# Altium integrated library TI Audio CODEC.IntLib: 199 symbols (part 14 of 17)
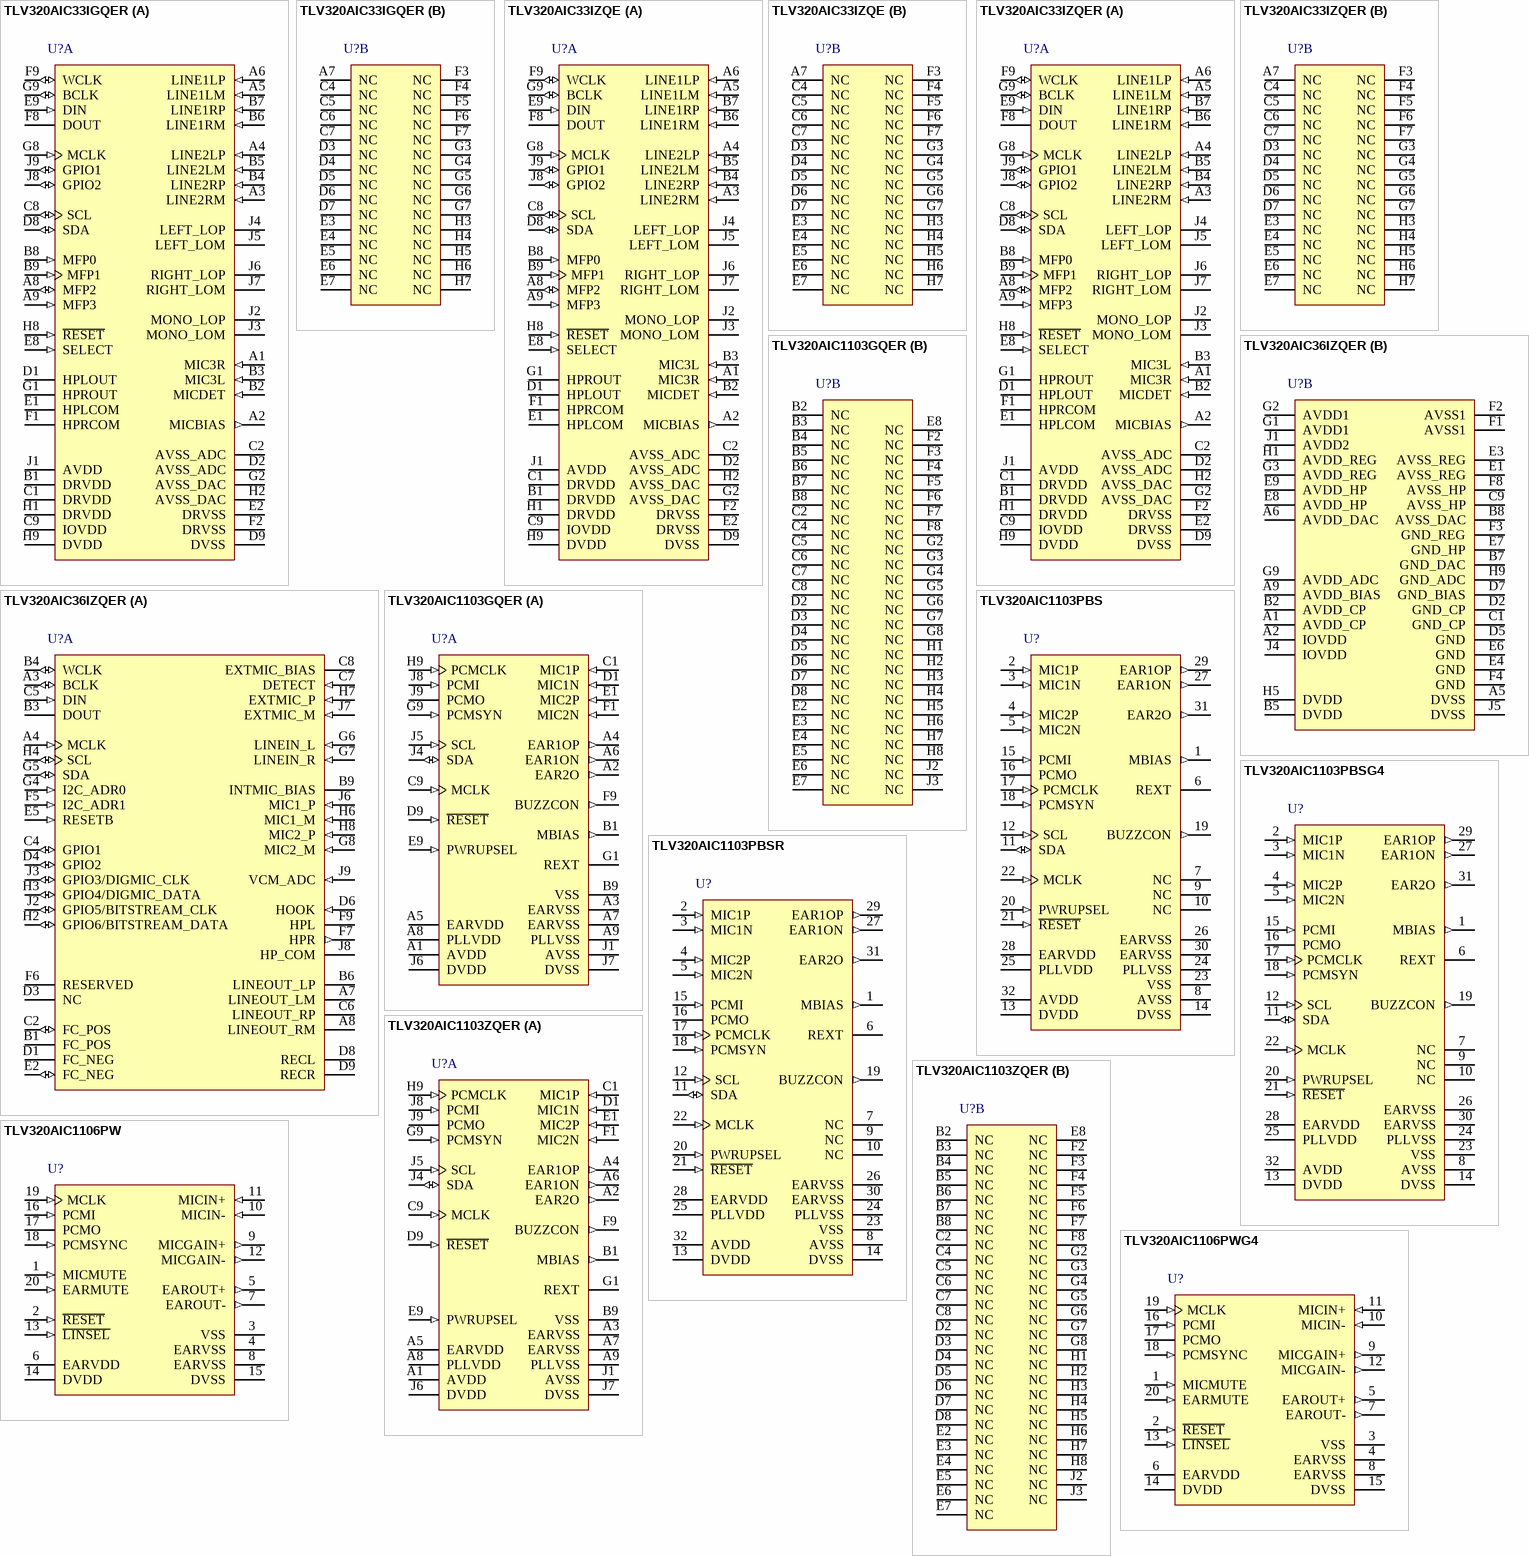
[diagram p26: symbols TLV320AIC33IGQER to TLV320AIC1106PWG4]

## TLV320AIC33IGQER
designator U?
Low-Power Stereo CODEC with 10 Inputs, 7 Outputs, HP / Speaker Amplifier and Enhanced Digital Effects, 2 ADCs and 2 DACs, 100 dB DAC SNR, -40 to 85 degC, 80-pin BGA MICROSTAR JUNIOR (GQE); Manufacturer: Texas Instruments; PartNumber: TLV320AIC33IGQER; # ADCs (typ): 2; Additional Features: 3D, EQ, Matrix Mixing, PLL, Alt Audio Int., HS detect; Battery Powered: TRUE; Control Interface: SPI, I2C; DAC SNR: 100; Digital Audio Interfaces: L, R, I2S, DSP, TDM; Sampling Rate (Max) (kHz): 96; Speaker Amp Output Power(Max)(W): 0.5; Speaker Amp Type: Class-AB; DatasheetVersion: SLAS480B; PackageVersion: Oct-2005; PackageReference: GQE80; PackageDescription: 80-Ball Plastic Ball Grid Array, 5 x 5 mm Body, 0.5 mm Pitch; Supplier 1: Digi-Key; Supplier Part Number 1: TLV320AIC33IGQER-ND; Supplier 2: Newark; Supplier Part Number 2: 75K1593; Supplier 3: Mouser; Supplier Part Number 3: 595-TLV320AIC33IGQER; # DACs: 2; Speaker Amp Ouputs: 2; Mounting Technology: Surface Mount; Code_JEDEC: MO-225; ComponentLink1Description: Datasheet; ComponentLink1URL: http://www.ti.com/general/docs/lit/getliterature.tsp?genericPartNumber=TLV320AIC33&fileType=pdf
footprint GQE80 (BGA, 80-Leads, Body 5x5mm, Pitch 0.5mm)
part A pins: A1 MIC3R (in) "MIC3 Input (Right or Multifunction)", A2 MICBIAS (out) "Microphone Bias Voltage Output", A3 LINE2RM (in) "MIC2 or Line2 Analog Input (Right Minus or Multifunction)", A4 LINE2LP (in) "MIC2 or Line2 Analog Input (Left Plus or Multifunction)", A5 LINE1LM (in) "MIC1 or Line1 Analog Input (Left Minus or Multifunction)", A6 LINE1LP (in) "MIC1 or Line1 Analog Input (Left Plus or Multifunction)", A8 MFP2 (io) "Multifunction pin #2 - SPI MISO Slave Serial Data Output / GPOI", A9 MFP3 (in) "Multifunction pin #3 - SPI MOSI Slave Serial Data Input / GPI / Audio Serial Data Bus Data Input", B1 DRVDD (power) "ADC Analog and Output Driver Voltage Supply, 2.7 V-3.6 V", B2 MICDET (in) "Microphone Detect", B3 MIC3L (in) "MIC3 Input (Left or Multifunction)", B4 LINE2RP (in) "MIC2 or Line2 Analog Input (Right Plus or Multifunction)", B5 LINE2LM (in) "MIC2 or Line2 Analog Input (Left Minus or Multifunction)", B6 LINE1RM (in) "MIC1 or Line1 Analog Input (Right Minus or Multifunction)", B7 LINE1RP (in) "MIC1 or Line1 Analog Input (Right Plus or Multifunction)", B8 MFP0 (in) "Multifunction pin #0 - SPI Chip Select / GPI / I2C Address Pin #0", B9 MFP1 (in) "Multifunction pin #1 - SPI Serial Clock / GPI / I2C Address Pin #1S", C1 DRVDD (power) "ADC Analog and Output Driver Voltage Supply, 2.7 V-3.6 V", C2 AVSS_ADC (power) "Analog ADC Ground Supply, 0 V", C8 SCL (io) "I2C Serial Clock / GPIO", C9 IOVDD (power) "I/O Voltage Supply, 1.1V - 3.6V", D1 HPLOUT (hiz) "High-Power Output Driver (Left Plus)", D2 AVSS_ADC (power) "Analog ADC Ground Supply, 0 V", D8 SDA (io) "I2C Serial Data Input/Output / GPIO", D9 DVSS (power) "Digital Core / I/O Ground Supply, 0V", E1 HPLCOM (hiz) "High-Power Output Driver (Left Minus or Multifunctional)", E2 DRVSS (power) "Analog Output Driver Ground Supply, 0 V", E8 SELECT (in) "Control Mode Select Pin (1=SPI, 0=I2C)", E9 DIN (in) "Audio Serial Data Bus Data Input (Input)", F1 HPRCOM (hiz) "High-Power Output Driver (Right Minus or Multifunctional)", F2 DRVSS (power) "Analog Output Driver Ground Supply, 0 V", F8 DOUT (hiz) "Audio Serial Data Bus Data Output (Output)t", F9 WCLK (io) "Audio Serial Data Bus Word Clock (Input/Output)", G1 HPROUT (hiz) "High-Power Output Driver (Right Plus)", G2 AVSS_DAC (power) "Analog DAC Ground Supply, 0 V", G8 MCLK (in) "Master Clock Input", G9 BCLK (io) "Audio Serial Data Bus Bit Clock (Input/Output)", H1 DRVDD (power) "ADC Analog and Output Driver Voltage Supply, 2.7 V- 3.6 V", H2 AVSS_DAC (power) "Analog DAC Ground Supply, 0 V", H8 ~{RESET} (in) "Reset", H9 DVDD (power) "Digital Core Voltage Supply, 1.65V - 1.95V", J1 AVDD (power) "Analog DAC Voltage Supply, 2.7 V-3.6 V", J2 MONO_LOP (hiz) "Mono Line Output (Plus)", J3 MONO_LOM (hiz) "Mono Line Output (Minus)", J4 LEFT_LOP (hiz) "Left Line Output (Plus)", J5 LEFT_LOM (hiz) "Left Line Output (Minus)", J6 RIGHT_LOP (hiz) "Right Line Output (Plus)", J7 RIGHT_LOM (hiz) "Right Line Output (Minus)", J8 GPIO2 (io) "General-Purpose Input/Output #2 (Input/Output) / Digital Microphone Data Input / PLL Clock Input / Audio Serial Data Bus Bit Clock Input/Output", J9 GPIO1 (io) "General-Purpose Input/Output #1 (Input/Output) / PLL/Clock Mux Output / Short Circuit Interrupt / AGC Noise Flag / Digital Microphone Clock Audio Serial Data Bus Word Clock Input/Output"
part B pins: A7 NC "No Connect", C4 NC "Do not connect.", C5 NC "Do not connect.", C6 NC "Do not connect.", C7 NC "Do not connect.", D3 NC "Do not connect.", D4 NC "Do not connect.", D5 NC "Do not connect.", D6 NC "Do not connect.", D7 NC "Do not connect.", E3 NC "Do not connect.", E4 NC "Do not connect.", E5 NC "Do not connect.", E6 NC "Do not connect.", E7 NC "Do not connect.", F3 NC "Do not connect.", F4 NC "Do not connect.", F5 NC "Do not connect.", F6 NC "Do not connect.", F7 NC "Do not connect.", G3 NC "Do not connect.", G4 NC "Do not connect.", G5 NC "Do not connect.", G6 NC "Do not connect.", G7 NC "Do not connect.", H3 NC "Do not connect.", H4 NC "Do not connect.", H5 NC "Do not connect.", H6 NC "Do not connect.", H7 NC "Do not connect."

## TLV320AIC33IZQE
designator U?
Low-Power Stereo CODEC with 10 Inputs, 7 Outputs, HP/Speaker Amplifier and Enhanced Digital Effects with 2 ADCs and 2 DACs, 100 dB DAC SNR, -40 to 85 degC, 80-pin BGAMICROSTAR JUNIOR (ZQE), Green (RoHS & no Sb/Br); Manufacturer: Texas Instruments; PartNumber: TLV320AIC33IZQE; # ADCs (typ): 2; Additional Features: 3D, EQ, Matrix Mixing, PLL, Alt Audio Int., HS detect; Battery Powered: TRUE; Control Interface: SPI, I2C; DAC SNR: 100; Digital Audio Interfaces: L, R, I2S, DSP, TDM; Sampling Rate (Max) (kHz): 96; Speaker Amp Output Power(Max)(W): 0.5; Speaker Amp Type: Class-AB; DatasheetVersion: SLAS480B; PackageVersion: revF, Jul-2011; PackageReference: ZQE80; PackageDescription: 80-Ball Plastic Ball Grid Array, 5 x 5 mm Body, 0.5 mm Pitch; Supplier 1: Digi-Key; Supplier Part Number 1: 296-26820-ND; Supplier 2: Newark; Supplier Part Number 2: 75K1594; Supplier 3: Mouser; Supplier Part Number 3: 595-TLV320AIC33IZQE; # DACs: 2; Speaker Amp Ouputs: 2; Mounting Technology: Surface Mount; Code_JEDEC: MO-225; ComponentLink1Description: Datasheet; ComponentLink1URL: http://www.ti.com/general/docs/lit/getliterature.tsp?genericPartNumber=TLV320AIC33&fileType=pdf
footprint ZQE80 (BGA, 80-Leads, Body 5x5mm, Pitch 0.5mm)
part A pins: A1 MIC3R (in) "MIC3 Input (Right or Multifunction)", A2 MICBIAS (out) "Microphone Bias Voltage Output", A3 LINE2RM (in) "MIC2 or Line2 Analog Input (Right Minus or Multifunction)", A4 LINE2LP (in) "MIC2 or Line2 Analog Input (Left Plus or Multifunction)", A5 LINE1LM (in) "MIC1 or Line1 Analog Input (Left Minus or Multifunction)", A6 LINE1LP (in) "MIC1 or Line1 Analog Input (Left Plus or Multifunction)", A8 MFP2 (io) "Multifunction pin #2 - SPI MISO Slave Serial Data Output / GPOI", A9 MFP3 (in) "Multifunction pin #3 - SPI MISO Slave Serial Data Input / GPI / Audio Serial Data Bus Data Input", B1 DRVDD (power) "ADC Analog and Output Driver Voltage Supply, 2.7 V-3.6 V", B2 MICDET (in) "Microphone Detect", B3 MIC3L (in) "MIC3 Input (Left or Multifunction)", B4 LINE2RP (in) "MIC2 or Line2 Analog Input (Right Plus or Multifunction)", B5 LINE2LM (in) "MIC2 or Line2 Analog Input (Left Minus or Multifunction)", B6 LINE1RM (in) "MIC1 or Line1 Analog Input (Right Minus or Multifunction)", B7 LINE1RP (in) "MIC1 or Line1 Analog Input (Right Plus or Multifunction)", B8 MFP0 (in) "Multifunction pin #0 - SPI Chip Select / GPI / I2C Address Pin #0", B9 MFP1 (in) "Multifunction pin #1 - SPI Serial Clock / GPI / I2C Address Pin #1S", C1 DRVDD (power) "ADC Analog and Output Driver Voltage Supply, 2.7 V-3.6 V", C2 AVSS_ADC (power) "Analog ADC Ground Supply, 0 V", C8 SCL (io) "I2C Serial Clock / GPIO", C9 IOVDD (power) "I/O Voltage Supply, 1.1V - 3.6V", D1 HPLOUT (hiz) "High-Power Output Driver (Left Plus)", D2 AVSS_ADC (power) "Analog ADC Ground Supply, 0 V", D8 SDA (io) "I2C Serial Data Input/Output / GPIO", D9 DVSS (power) "Digital Core / I/O Ground Supply, 0V", E1 HPLCOM (hiz) "High-Power Output Driver (Left Minus or Multifunctional)", E2 DRVSS (power) "Analog Output Driver Ground Supply, 0 V", E8 SELECT (in) "Control Mode Select Pin (1=SPI, 0=I2C)", E9 DIN (in) "Audio Serial Data Bus Data Input (Input)", F1 HPRCOM (hiz) "High-Power Output Driver (Right Minus or Multifunctional)", F2 DRVSS (power) "Analog Output Driver Ground Supply, 0 V", F8 DOUT (hiz) "Audio Serial Data Bus Data Output (Output)", F9 WCLK (io) "Audio Serial Data Bus Word Clock (Input/Output)", G1 HPROUT (hiz) "High-Power Output Driver (Right Plus)", G2 AVSS_DAC (power) "Analog DAC Ground Supply, 0 V", G8 MCLK (in) "Master Clock Input", G9 BCLK (io) "Audio Serial Data Bus Bit Clock (Input/Output)", H1 DRVDD (power) "ADC Analog and Output Driver Voltage Supply, 2.7 V- 3.6 V", H2 AVSS_DAC (power) "Analog DAC Ground Supply, 0 V", H8 ~{RESET} (in) "Reset", H9 DVDD (power) "Digital Core Voltage Supply, 1.65V - 1.95V", J1 AVDD (power) "Analog DAC Voltage Supply, 2.7 V-3.6 V", J2 MONO_LOP (hiz) "Mono Line Output (Plus)", J3 MONO_LOM (hiz) "Mono Line Output (Minus)", J4 LEFT_LOP (hiz) "Left Line Output (Plus)", J5 LEFT_LOM (hiz) "Left Line Output (Minus)", J6 RIGHT_LOP (hiz) "Right Line Output (Plus)", J7 RIGHT_LOM (hiz) "Right Line Output (Minus)t", J8 GPIO2 (io) "General-Purpose Input/Output #2 (Input/Output) / Digital Microphone Data Input / PLL Clock Input / Audio Serial Data Bus Bit Clock Input/Output", J9 GPIO1 (io) "General-Purpose Input/Output #1 (Input/Output) / PLL/Clock Mux Output / Short Circuit Interrupt / AGC Noise Flag / Digital Microphone Clock Audio Serial Data Bus Word Clock Input/Output"
part B pins: A7 NC "No Connect", C4 NC "Do not connect", C5 NC "Do not connect", C6 NC "Do not connect", C7 NC "Do not connect", D3 NC "Do not connect", D4 NC "Do not connect", D5 NC "Do not connect", D6 NC "Do not connect", D7 NC "Do not connect", E3 NC "Do not connect", E4 NC "Do not connect", E5 NC "Do not connect", E6 NC "Do not connect", E7 NC "Do not connect", F3 NC "Do not connect", F4 NC "Do not connect", F5 NC "Do not connect", F6 NC "Do not connect", F7 NC "Do not connect", G3 NC "Do not connect", G4 NC "Do not connect", G5 NC "Do not connect", G6 NC "Do not connect", G7 NC "Do not connect", H3 NC "Do not connect", H4 NC "Do not connect", H5 NC "Do not connect", H6 NC "Do not connect", H7 NC "Do not connect"

## TLV320AIC33IZQER
designator U?
Low-Power Stereo CODEC with 10 Inputs, 7 Outputs, HP / Speaker Amplifier and Enhanced Digital Effects, 2 ADCs and 2 DACs, 100 dB DAC SNR, -40 to 85 degC, 80-pin BGA MICROSTAR JUNIOR (ZQE), Green (RoHS & no Sb/Br); Manufacturer: Texas Instruments; PartNumber: TLV320AIC33IZQER; # ADCs (typ): 2; Additional Features: 3D, EQ, Matrix Mixing, PLL, Alt Audio Int., HS detect; Battery Powered: TRUE; Control Interface: SPI, I2C; DAC SNR: 100; Digital Audio Interfaces: L, R, I2S, DSP, TDM; Sampling Rate (Max) (kHz): 96; Speaker Amp Output Power(Max)(W): 0.5; Speaker Amp Type: Class-AB; DatasheetVersion: SLAS480B; PackageVersion: revF, Jul-2011; PackageReference: ZQE80; PackageDescription: 80-Ball Plastic Ball Grid Array, 5 x 5 mm Body, 0.5 mm Pitch; Supplier 1: Digi-Key; Supplier Part Number 1: 296-19598-2-ND; Supplier 2: Digi-Key; Supplier Part Number 2: 296-19598-1-ND; Supplier 3: Farnell; Supplier Part Number 3: 1411820; Supplier 4: Newark; Supplier Part Number 4: 75K1595; Supplier 5: Mouser; Supplier Part Number 5: 595-TLV320AIC33IZQER; # DACs: 2; Speaker Amp Ouputs: 2; Mounting Technology: Surface Mount; Code_JEDEC: MO-225; ComponentLink1Description: Datasheet; ComponentLink1URL: http://www.ti.com/general/docs/lit/getliterature.tsp?genericPartNumber=TLV320AIC33&fileType=pdf
footprint ZQE80 (BGA, 80-Leads, Body 5x5mm, Pitch 0.5mm)
part A pins: A1 MIC3R (in) "MIC3 Input (Right or Multifunction)", A2 MICBIAS (out) "Microphone Bias Voltage Output", A3 LINE2RM (in) "MIC2 or Line2 Analog Input (Right Minus or Multifunction)", A4 LINE2LP (in) "MIC2 or Line2 Analog Input (Left Plus or Multifunction)", A5 LINE1LM (in) "MIC1 or Line1 Analog Input (Left Minus or Multifunction)", A6 LINE1LP (in) "MIC1 or Line1 Analog Input (Left Plus or Multifunction)", A8 MFP2 (io) "Multifunction pin #2 - SPI MISO Slave Serial Data Output / GPOI", A9 MFP3 (in) "Multifunction pin #3 - SPI MISO Slave Serial Data Input / GPI / Audio Serial Data Bus Data Input", B1 DRVDD (power) "ADC Analog and Output Driver Voltage Supply, 2.7 V-3.6 V", B2 MICDET (in) "Microphone Detect", B3 MIC3L (in) "MIC3 Input (Left or Multifunction)", B4 LINE2RP (in) "MIC2 or Line2 Analog Input (Right Plus or Multifunction)", B5 LINE2LM (in) "MIC2 or Line2 Analog Input (Left Minus or Multifunction)", B6 LINE1RM (in) "MIC1 or Line1 Analog Input (Right Minus or Multifunction)", B7 LINE1RP (in) "MIC1 or Line1 Analog Input (Right Plus or Multifunction)", B8 MFP0 (in) "Multifunction pin #0 - SPI Chip Select / GPI / I2C Address Pin #0", B9 MFP1 (in) "Multifunction pin #1 - SPI Serial Clock / GPI / I2C Address Pin #1S", C1 DRVDD (power) "ADC Analog and Output Driver Voltage Supply, 2.7 V-3.6 V", C2 AVSS_ADC (power) "Analog ADC Ground Supply, 0 V", C8 SCL (io) "I2C Serial Clock / GPIO", C9 IOVDD (power) "I/O Voltage Supply, 1.1V - 3.6V", D1 HPLOUT (hiz) "High-Power Output Driver (Left Plus)", D2 AVSS_ADC (power) "Analog ADC Ground Supply, 0 V", D8 SDA (io) "I2C Serial Data Input/Output / GPIO", D9 DVSS (power) "Digital Core / I/O Ground Supply, 0V", E1 HPLCOM (hiz) "High-Power Output Driver (Left Minus or Multifunctional)", E2 DRVSS (power) "Analog Output Driver Ground Supply, 0 V", E8 SELECT (in) "Control Mode Select Pin (1=SPI, 0=I2C)", E9 DIN (in) "Audio Serial Data Bus Data Input (Input)", F1 HPRCOM (hiz) "High-Power Output Driver (Right Minus or Multifunctional)", F2 DRVSS (power) "Analog Output Driver Ground Supply, 0 V", F8 DOUT (hiz) "Audio Serial Data Bus Data Output (Output)", F9 WCLK (io) "Audio Serial Data Bus Word Clock (Input/Output)", G1 HPROUT (hiz) "High-Power Output Driver (Right Plus)", G2 AVSS_DAC (power) "Analog DAC Ground Supply, 0 V", G8 MCLK (in) "Master Clock Input", G9 BCLK (io) "Audio Serial Data Bus Bit Clock (Input/Output)", H1 DRVDD (power) "ADC Analog and Output Driver Voltage Supply, 2.7 V- 3.6 V", H2 AVSS_DAC (power) "Analog DAC Ground Supply, 0 V", H8 ~{RESET} (in) "Reset", H9 DVDD (power) "Digital Core Voltage Supply, 1.65V - 1.95V", J1 AVDD (power) "Analog DAC Voltage Supply, 2.7 V-3.6 V", J2 MONO_LOP (hiz) "Mono Line Output (Plus)", J3 MONO_LOM (hiz) "Mono Line Output (Minus)", J4 LEFT_LOP (hiz) "Left Line Output (Plus)", J5 LEFT_LOM (hiz) "Left Line Output (Minus)", J6 RIGHT_LOP (hiz) "Right Line Output (Plus)", J7 RIGHT_LOM (hiz) "Right Line Output (Minus)t", J8 GPIO2 (io) "General-Purpose Input/Output #2 (Input/Output) / Digital Microphone Data Input / PLL Clock Input / Audio Serial Data Bus Bit Clock Input/Output", J9 GPIO1 (io) "General-Purpose Input/Output #1 (Input/Output) / PLL/Clock Mux Output / Short Circuit Interrupt / AGC Noise Flag / Digital Microphone Clock Audio Serial Data Bus Word Clock Input/Output"
part B pins: A7 NC "No Connect", C4 NC "Do not connect", C5 NC "Do not connect", C6 NC "Do not connect", C7 NC "Do not connect", D3 NC "Do not connect", D4 NC "Do not connect", D5 NC "Do not connect", D6 NC "Do not connect", D7 NC "Do not connect", E3 NC "Do not connect", E4 NC "Do not connect", E5 NC "Do not connect", E6 NC "Do not connect", E7 NC "Do not connect", F3 NC "Do not connect", F4 NC "Do not connect", F5 NC "Do not connect", F6 NC "Do not connect", F7 NC "Do not connect", G3 NC "Do not connect", G4 NC "Do not connect", G5 NC "Do not connect", G6 NC "Do not connect", G7 NC "Do not connect", H3 NC "Do not connect", H4 NC "Do not connect", H5 NC "Do not connect", H6 NC "Do not connect", H7 NC "Do not connect"

## TLV320AIC36IZQER
designator U?
Low Power Stereo Audio CODEC for Portable Audio / Telephony with 2 ADCs and 2 DACs, 100 dB DAC SNR, -40 to 85 degC, 80-pin BGA MICROSTAR JUNIOR (ZQE), Green (RoHS & no Sb/Br); Manufacturer: Texas Instruments; PartNumber: TLV320AIC36IZQER; # ADCs (typ): 2; Additional Features: miniDSP, DirectPath headphone amplifier, LDO, Digital Mic Support, advanced microphone impedance detection; Battery Powered: TRUE; Control Interface: I2C; DAC SNR: 100; Digital Audio Interfaces: L, R, I2S, TDM, DSP; Ground-Centered Outputs: Yes; Sampling Rate (Max) (kHz): 192; DatasheetVersion: SBAS387A; PackageVersion: revF, Jul-2011; PackageReference: ZQE80; PackageDescription: 80-Ball Plastic Ball Grid Array, 5 x 5 mm Body, 0.5 mm Pitch; Supplier 1: Digi-Key; Supplier Part Number 1: 296-24673-2-ND; Supplier 2: Digi-Key; Supplier Part Number 2: 296-24673-1-ND; Supplier 3: Digi-Key; Supplier Part Number 3: 296-24673-6-ND; Supplier 4: Mouser; Supplier Part Number 4: 595-TLV320AIC36IZQER; # DACs: 2; Mounting Technology: Surface Mount; Code_JEDEC: MO-225; ComponentLink1Description: Datasheet; ComponentLink1URL: http://www.ti.com/general/docs/lit/getliterature.tsp?genericPartNumber=TLV320AIC36&fileType=pdf
footprint ZQE80 (BGA, 80-Leads, Body 5x5mm, Pitch 0.5mm)
part A pins: A3 BCLK (io) "Audio serial bus bit clock.", A4 MCLK (in) "Master clock.", A7 LINEOUT_LM (hiz) "Left line output (Neg).", A8 LINEOUT_RM (hiz) "Right line out (Neg).", B1 FC_POS "Flying capacitor for charge pump.", B3 DOUT (hiz) "Audio serial bus data output (ADC Data).", B4 WCLK (io) "Audio serial bus word clock.", B6 LINEOUT_LP (hiz) "Left line output (Pos).", B9 INTMIC_BIAS (hiz) "Bias voltage for internal microphone.", C2 FC_POS (io) "Flying capacitor for charge pump.", C4 GPIO1 (io) "Interrupt request/GPIO", C5 DIN (in) "Audio serial bus data input (DAC Data).", C6 LINEOUT_RP (hiz) "Right line out (Pos).", C7 DETECT (in) "Microphone impedance detect.", C8 EXTMIC_BIAS (hiz) "Bias voltage for external microphone.", D1 FC_NEG "Flying capacitor for charge pump.", D3 NC "No connection.", D4 GPIO2 (io) "External amplifier power control/GPIO/Secondary serial WCLK.", D6 HOOK (in) "Hookswitch detect.", D8 RECL (hiz) "Left receiver out.", D9 RECR (hiz) "Right receiver out.", E2 FC_NEG (io) "Flying capacitor for charge pump.", E5 RESETB (in) "Reset.", F5 I2C_ADR1 (in) "I2C address Pin 1.", F6 RESERVED "Reserved.", F7 HPR (out) "Right headphone output.", F9 HPL (hiz) "Left headphone output.", G4 I2C_ADR0 (in) "I2C address Pin 0.", G5 SDA (io) "I2C data I/O.", G6 LINEIN_L (in) "Left line input.", G7 LINEIN_R (in) "Right line input.", G8 MIC2_M (in) "Internal mic #2 input (minus).", H2 GPIO6/BITSTREAM_DATA (io) "Data for class-D amp/GPIO.", H3 GPIO4/DIGMIC_DATA (io) "Data from digital mic/GPIO/Secondary serial DIN.", H4 SCL (io) "I2C serial clock.", H6 MIC1_M (in) "Internal mic #1 input (minus).", H7 EXTMIC_P (in) "External mic input (plus).", H8 MIC2_P (in) "Internal mic #2 input (plus).", J2 GPIO5/BITSTREAM_CLK (io) "Clock for class-D amp/GPIO.", J3 GPIO3/DIGMIC_CLK (io) "Clock for digital mic/GPIO/Secondary serial BCLK/PLL Clock Output.", J6 MIC1_P (in) "Internal mic #1 input (plus).", J7 EXTMIC_M (in) "External mic input (minus).", J8 HP_COM (power) "Headphone amp common (signal ground).", J9 VCM_ADC (in) "ADC common mode level."
part B pins: A1 AVDD_CP (power) "Charge pump supply.", A2 IOVDD (power) "I/O digital supply.", A5 DVSS (power) "Digital Ground.", A6 AVDD_DAC (power) "Positive supply for DAC and lineout amps.", A9 AVDD_BIAS (power) "Supply for mic bias and detect blocks.", B2 AVDD_CP (power) "Charge pump supply.", B5 DVDD (power) "Core digital supply.", B7 GND_DAC (power) "Signal ground for DAC.", B8 AVSS_DAC (power) "Negative supply for DAC and lineout amps.", C1 GND_CP (power) "Charge pump ground.", C9 AVSS_HP (power) "Negative supply for headphone amps.", D2 GND_CP (power) "Charge pump ground.", D5 GND (power) "Substrate ground. Connect to analog ground.", D7 GND_BIAS (power) "Ground for mic bias and detect blocks.", E1 AVSS_REG (power) "Negative regulator supply input/charge pump output.", E3 AVSS_REG (power) "Negative regulator supply input/charge pump output.", E4 GND (power) "Substrate ground. Connect to analog ground.", E6 GND (power) "Substrate ground. Connect to analog ground.", E7 GND_HP (power) "Signal ground for HP and receiver amps.", E8 AVDD_HP (power) "Positive supply for headphone amps.", E9 AVDD_HP (power) "Positive supply for headphone amps.", F1 AVSS1 (power) "Primary negative LDO output (DAC VSS LDO).", F2 AVSS1 (power) "Primary negative LDO output (DAC VSS LDO).", F3 GND_REG (power) "Regulator ground.", F4 GND (power) "Substrate ground. Connect to analog ground.", F8 AVSS_HP (power) "Negative supply for headphone amps.", G1 AVDD1 (power) "Primary positive LDO output (DAC VDD LDO).", G2 AVDD1 (power) "Primary positive LDO output (DAC VDD LDO).", G3 AVDD_REG (power) "Positive regulator supply input.", G9 AVDD_ADC (power) "Positive supply for ADC and PLL.", H1 AVDD_REG (power) "Positive regulator supply input.", H5 DVDD (power) "Core digital supply.", H9 GND_ADC (power) "Analog ground for ADC and PLL.", J1 AVDD2 (power) "Secondary positive LDO output (ADC VDD LDO).", J4 IOVDD (power) "I/O digital supply.", J5 DVSS (power) "Digital Ground."

## TLV320AIC1103GQER
designator U?
PCM CODEC with Microphone Amps & Speaker Driver with 1 ADC and 1 DAC, -40 to 85 degC, 80-pin BGA MICROSTAR JUNIOR (GQE); Manufacturer: Texas Instruments; PartNumber: TLV320AIC1103GQER; # ADCs (typ): 1; Additional Features: A-Law, u-Law; Battery Powered: TRUE; Control Interface: I2C; Sampling Rate (Max) (kHz): 8; DatasheetVersion: SLAS356; PackageVersion: Oct-2005; PackageReference: GQE80; PackageDescription: 80-Ball Plastic Ball Grid Array, 5 x 5 mm Body, 0.5 mm Pitch; Supplier 1: Digi-Key; Supplier Part Number 1: 296-12708-2-ND; Supplier 2: Digi-Key; Supplier Part Number 2: 296-12708-1-ND; Supplier 3: Digi-Key; Supplier Part Number 3: 296-12708-6-ND; Supplier 4: Newark; Supplier Part Number 4: 76C8697; Supplier 5: Mouser; Supplier Part Number 5: 595-TLV320AIC1103GQE; # DACs: 1; Digital Audio Interfaces: PCM; Headphone Driver: TRUE; Mounting Technology: Surface Mount; Code_JEDEC: MO-225; ComponentLink1Description: Datasheet; ComponentLink1URL: http://www.ti.com/general/docs/lit/getliterature.tsp?genericPartNumber=TLV320AIC1103&fileType=pdf
footprint GQE80 (BGA, 80-Leads, Body 5x5mm, Pitch 0.5mm)
part A pins: A1 AVDD (power) "Analog positive power supply", A2 EAR2O (out) "Earphone 2 amplifier output", A3 EARVSS (power) "Analog negative power supply for the earphone amplifiers", A4 EAR1OP (out) "Earphone 1 amplifier output (+)", A5 EARVDD (power) "Analog positive power supply for the earphone amplifiers", A6 EAR1ON (out) "Earphone 1 amplifier output (-)", A7 EARVSS (power) "Analog negative power supply for the earphone amplifiers", A8 PLLVDD (power) "PLL digital power supply", A9 PLLVSS (power) "PLL negative power supply", B1 MBIAS (out) "Microphone bias supply output, no decoupling capacitors", B9 VSS (power) "Ground return for bandgap internal reference", C1 MIC1P (in) "MIC1 input (+)", C9 MCLK (in) "Master system clock input (2.048 MHz) (digital)", D1 MIC1N (in) "MIC1 input (-)", D9 ~{RESET} (in) "Active low reset", E1 MIC2P (in) "MIC2 input (+)", E9 PWRUPSEL (in) "Selects the power-up default mode", F1 MIC2N (in) "MIC2 input (-)", F9 BUZZCON (out) "Buzzer output, a pulse-density modulated signal to apply to external buzzer driver", G1 REXT "Internal reference current setting terminal--use precision 100-kohm resistor and no filtering capacitors", G9 PCMSYN (in) "PCM frame synchronization", H9 PCMCLK (in) "PCM data clock", J1 AVSS (power) "Analog negative power supply", J4 SDA (io) "I2C-bus serial address/data input/output--this is a bidirectional terminal used to transfer register control addresses and data into and out of the CODEC. It is an open-drain terminal and therefore requires a pullup resistor (See Datasheet)", J5 SCL (in) "I2C-bus serial clock--this input is used to synchronize the data transfer from and to the PCM codec", J6 DVDD (power) "Digital positive power supply", J7 DVSS (power) "Digital negative power supply", J8 PCMI (in) "Receive PCM input", J9 PCMO (hiz) "Transmit PCM output"
part B pins: B2 NC, B3 NC, B4 NC, B5 NC, B6 NC, B7 NC, B8 NC, C2 NC, C4 NC, C5 NC, C6 NC, C7 NC, C8 NC, D2 NC, D3 NC, D4 NC, D5 NC, D6 NC, D7 NC, D8 NC, E2 NC, E3 NC, E4 NC, E5 NC, E6 NC, E7 NC, E8 NC, F2 NC, F3 NC, F4 NC, F5 NC, F6 NC, F7 NC, F8 NC, G2 NC, G3 NC, G4 NC, G5 NC, G6 NC, G7 NC, G8 NC, H1 NC, H2 NC, H3 NC, H4 NC, H5 NC, H6 NC, H7 NC, H8 NC, J2 NC, J3 NC

## TLV320AIC1103PBS
designator U?
Programmable PCM CODEC with Microphone Amps and Speaker Driver, 1 ADC and 1 DAC, -40 to 85 degC, 32-pin TQFP (PBS), Green (RoHS & no Sb/Br); Manufacturer: Texas Instruments; PartNumber: TLV320AIC1103PBS; # ADCs (typ): 1; Additional Features: A-Law, u-Law; Battery Powered: TRUE; Control Interface: I2C; Sampling Rate (Max) (kHz): 8; DatasheetVersion: SLAS356; PackageVersion: Nov-1995; PackageReference: PBS32; PackageDescription: 32-Pin Thin Plastic Quad Flat Pack 0.5 mm Pitch; Supplier 1: Digi-Key; Supplier Part Number 1: 296-13001-2-ND; Supplier 2: Digi-Key; Supplier Part Number 2: 296-13001-1-ND; Supplier 3: Digi-Key; Supplier Part Number 3: 296-13001-6-ND; Supplier 4: Newark; Supplier Part Number 4: 76C8698; Supplier 5: Mouser; Supplier Part Number 5: 595-TLV320AIC1103PBS; # DACs: 1; Digital Audio Interfaces: PCM; Mounting Technology: Surface Mount; Code_JEDEC: MS-026-AAA; ComponentLink1Description: Datasheet; ComponentLink1URL: http://www.ti.com/general/docs/lit/getliterature.tsp?genericPartNumber=TLV320AIC1103&fileType=pdf
footprint PBS32_N (Thin QFP, 32-Leads, Body 5x5mm, Pitch 0.5mm, IPC Medium Density)
footprint PBS32_L (Thin QFP, 32-Leads, Body 5x5mm, Pitch 0.5mm, IPC High Density)
footprint PBS32_M (Thin QFP, 32-Leads, Body 5x5mm, Pitch 0.5mm, IPC Low Density)
pins: 1 MBIAS (out) "Microphone bias supply output, no decoupling capacitors", 2 MIC1P (in) "MIC1 input (+)", 3 MIC1N (in) "MIC1 input (-)", 4 MIC2P (in) "MIC2 input (+)", 5 MIC2N (in) "MIC2 input (-)", 6 REXT "Internal reference current setting terminal--use precision 100-kohm resistor and no filtering capacitors", 7 NC "No connection", 8 AVSS (power) "Analog negative power supply", 9 NC "No connection", 10 NC "No connection", 11 SDA (io) "I2C-bus serial address/data input/output--this is a bidirectional terminal used to transfer register control addresses and data into and out of the CODEC. It is an open-drain terminal and therefore requires a pullup resistor (See Datasheet)", 12 SCL (in) "I2C-bus serial clock--this input is used to synchronize the data transfer from and to the PCM codec", 13 DVDD (power) "Digital positive power supply", 14 DVSS (power) "Digital negative power supply", 15 PCMI (in) "Receive PCM input", 16 PCMO (hiz) "Transmit PCM output", 17 PCMCLK (in) "PCM data clock", 18 PCMSYN (in) "PCM frame synchronization", 19 BUZZCON (out) "Buzzer output, a pulse-density modulated signal to apply to external buzzer driver", 20 PWRUPSEL (in) "Selects the power-up default mode", 21 ~{RESET} (in) "Active low reset", 22 MCLK (in) "Master system clock input (2.048 MHz) (digital)", 23 VSS (power) "Ground return for bandgap internal reference", 24 PLLVSS (power) "PLL negative power supply", 25 PLLVDD (power) "PLL digital power supply", 26 EARVSS (power) "Analog negative power supply for the earphone amplifiers", 27 EAR1ON (out) "Earphone 1 amplifier output (-)", 28 EARVDD (power) "Analog positive power supply for the earphone amplifiers", 29 EAR1OP (out) "Earphone 1 amplifier output (+)", 30 EARVSS (power) "Analog negative power supply for the earphone amplifiers", 31 EAR2O (out) "Earphone 2 amplifier output", 32 AVDD (power) "Analog positive power supply"

## TLV320AIC1103PBSG4
designator U?
Programmable PCM CODEC with Microphone Amps and Speaker Driver, 1 ADC and 1 DAC, -40 to 85 degC, 32-pin TQFP (PBS), Green (RoHS & no Sb/Br); Manufacturer: Texas Instruments; PartNumber: TLV320AIC1103PBSG4; # ADCs (typ): 1; Additional Features: A-Law, u-Law; Battery Powered: TRUE; Control Interface: I2C; Sampling Rate (Max) (kHz): 8; DatasheetVersion: SLAS356; PackageVersion: Nov-1995; PackageReference: PBS32; PackageDescription: 32-Pin Thin Plastic Quad Flat Pack 0.5 mm Pitch; Supplier 1: Digi-Key; Supplier Part Number 1: TLV320AIC1103PBSG4-ND; Supplier 2: Newark; Supplier Part Number 2: 80K3316; Supplier 3: Mouser; Supplier Part Number 3: 595-TLV320AIC1103PG4; # DACs: 1; Digital Audio Interfaces: PCM; Mounting Technology: Surface Mount; Code_JEDEC: MS-026-AAA; ComponentLink1Description: Datasheet; ComponentLink1URL: http://www.ti.com/general/docs/lit/getliterature.tsp?genericPartNumber=TLV320AIC1103&fileType=pdf
footprint PBS32_N (Thin QFP, 32-Leads, Body 5x5mm, Pitch 0.5mm, IPC Medium Density)
footprint PBS32_L (Thin QFP, 32-Leads, Body 5x5mm, Pitch 0.5mm, IPC High Density)
footprint PBS32_M (Thin QFP, 32-Leads, Body 5x5mm, Pitch 0.5mm, IPC Low Density)
pins: 1 MBIAS (out) "Microphone bias supply output, no decoupling capacitors", 2 MIC1P (in) "MIC1 input (+)", 3 MIC1N (in) "MIC1 input (-)", 4 MIC2P (in) "MIC2 input (+)", 5 MIC2N (in) "MIC2 input (-)", 6 REXT "Internal reference current setting terminal--use precision 100-kohm resistor and no filtering capacitors", 7 NC "No connection", 8 AVSS (power) "Analog negative power supply", 9 NC "No connection", 10 NC "No connection", 11 SDA (io) "I2C-bus serial address/data input/output--this is a bidirectional terminal used to transfer register control addresses and data into and out of the CODEC. It is an open-drain terminal and therefore requires a pullup resistor (See Datasheet)", 12 SCL (in) "I2C-bus serial clock--this input is used to synchronize the data transfer from and to the PCM codec", 13 DVDD (power) "Digital positive power supply", 14 DVSS (power) "Digital negative power supply", 15 PCMI (in) "Receive PCM input", 16 PCMO (hiz) "Transmit PCM output", 17 PCMCLK (in) "PCM data clock", 18 PCMSYN (in) "PCM frame synchronization", 19 BUZZCON (out) "Buzzer output, a pulse-density modulated signal to apply to external buzzer driver", 20 PWRUPSEL (in) "Selects the power-up default mode", 21 ~{RESET} (in) "Active low reset", 22 MCLK (in) "Master system clock input (2.048 MHz) (digital)", 23 VSS (power) "Ground return for bandgap internal reference", 24 PLLVSS (power) "PLL negative power supply", 25 PLLVDD (power) "PLL digital power supply", 26 EARVSS (power) "Analog negative power supply for the earphone amplifiers", 27 EAR1ON (out) "Earphone 1 amplifier output (-)", 28 EARVDD (power) "Analog positive power supply for the earphone amplifiers", 29 EAR1OP (out) "Earphone 1 amplifier output (+)", 30 EARVSS (power) "Analog negative power supply for the earphone amplifiers", 31 EAR2O (out) "Earphone 2 amplifier output", 32 AVDD (power) "Analog positive power supply"

## TLV320AIC1103PBSR
designator U?
Programmable PCM CODEC with Microphone Amps and Speaker Driver, 1 ADC and 1 DAC, -40 to 85 degC, 32-pin TQFP (PBS), Green (RoHS & no Sb/Br); Manufacturer: Texas Instruments; PartNumber: TLV320AIC1103PBSR; # ADCs (typ): 1; Additional Features: A-Law, u-Law; Battery Powered: TRUE; Control Interface: I2C; Sampling Rate (Max) (kHz): 8; DatasheetVersion: SLAS356; PackageVersion: Nov-1995; PackageReference: PBS32; PackageDescription: 32-Pin Thin Plastic Quad Flat Pack 0.5 mm Pitch; Supplier 1: Digi-Key; Supplier Part Number 1: 296-12748-2-ND; Supplier 2: Digi-Key; Supplier Part Number 2: 296-12748-1-ND; Supplier 3: Digi-Key; Supplier Part Number 3: 296-12748-6-ND; Supplier 4: Newark; Supplier Part Number 4: 76C8699; Supplier 5: Mouser; Supplier Part Number 5: 595-TLV320AIC1103PSR; # DACs: 1; Digital Audio Interfaces: PCM; Mounting Technology: Surface Mount; Code_JEDEC: MS-026-AAA; ComponentLink1Description: Datasheet; ComponentLink1URL: http://www.ti.com/general/docs/lit/getliterature.tsp?genericPartNumber=TLV320AIC1103&fileType=pdf
footprint PBS32_N (Thin QFP, 32-Leads, Body 5x5mm, Pitch 0.5mm, IPC Medium Density)
footprint PBS32_L (Thin QFP, 32-Leads, Body 5x5mm, Pitch 0.5mm, IPC High Density)
footprint PBS32_M (Thin QFP, 32-Leads, Body 5x5mm, Pitch 0.5mm, IPC Low Density)
pins: 1 MBIAS (out) "Microphone bias supply output, no decoupling capacitors", 2 MIC1P (in) "MIC1 input (+)", 3 MIC1N (in) "MIC1 input (-)", 4 MIC2P (in) "MIC2 input (+)", 5 MIC2N (in) "MIC2 input (-)", 6 REXT "Internal reference current setting terminal--use precision 100-kohm resistor and no filtering capacitors", 7 NC "No connection", 8 AVSS (power) "Analog negative power supply", 9 NC "No connection", 10 NC "No connection", 11 SDA (io) "I2C-bus serial address/data input/output--this is a bidirectional terminal used to transfer register control addresses and data into and out of the CODEC. It is an open-drain terminal and therefore requires a pullup resistor (See Datasheet)", 12 SCL (in) "I2C-bus serial clock--this input is used to synchronize the data transfer from and to the PCM codec", 13 DVDD (power) "Digital positive power supply", 14 DVSS (power) "Digital negative power supply", 15 PCMI (in) "Receive PCM input", 16 PCMO (hiz) "Transmit PCM output", 17 PCMCLK (in) "PCM data clock", 18 PCMSYN (in) "PCM frame synchronization", 19 BUZZCON (out) "Buzzer output, a pulse-density modulated signal to apply to external buzzer driver", 20 PWRUPSEL (in) "Selects the power-up default mode", 21 ~{RESET} (in) "Active low reset", 22 MCLK (in) "Master system clock input (2.048 MHz) (digital)", 23 VSS (power) "Ground return for bandgap internal reference", 24 PLLVSS (power) "PLL negative power supply", 25 PLLVDD (power) "PLL digital power supply", 26 EARVSS (power) "Analog negative power supply for the earphone amplifiers", 27 EAR1ON (out) "Earphone 1 amplifier output (-)", 28 EARVDD (power) "Analog positive power supply for the earphone amplifiers", 29 EAR1OP (out) "Earphone 1 amplifier output (+)", 30 EARVSS (power) "Analog negative power supply for the earphone amplifiers", 31 EAR2O (out) "Earphone 2 amplifier output", 32 AVDD (power) "Analog positive power supply"

## TLV320AIC1103ZQER
designator U?
Programmable PCM CODEC with Microphone Amps & Speaker Driver, 1 ADC and 1 DAC, 80-pin BGA MICROSTAR JUNIOR (ZQE), Green (RoHS & no Sb/Br); Manufacturer: Texas Instruments; PartNumber: TLV320AIC1103ZQER; # ADCs (typ): 1; Additional Features: A-Law, u-Law; Battery Powered: TRUE; Control Interface: I2C; Sampling Rate (Max) (kHz): 8; DatasheetVersion: SLAS357; PackageVersion: revF, Jul-2011; PackageReference: ZQE80; PackageDescription: 80-Ball Plastic Ball Grid Array, 5 x 5 mm Body, 0.5 mm Pitch; Supplier 1: Digi-Key; Supplier Part Number 1: 296-21257-2-ND; Supplier 2: Digi-Key; Supplier Part Number 2: 296-21257-1-ND; Supplier 3: Newark; Supplier Part Number 3: 10J9697; Supplier 4: Mouser; Supplier Part Number 4: 595-TLV320AIC1103ZQE; # DACs: 1; Digital Audio Interfaces: PCM; Headphone Driver: TRUE; Mounting Technology: Surface Mount; Code_JEDEC: MO-225; ComponentLink1Description: Datasheet; ComponentLink1URL: http://www.ti.com/general/docs/lit/getliterature.tsp?genericPartNumber=TLV320AIC1106&fileType=pdf
footprint ZQE80 (BGA, 80-Leads, Body 5x5mm, Pitch 0.5mm)
part A pins: A1 AVDD (power) "Analog positive power supply", A2 EAR2O (out) "Earphone 2 amplifier output", A3 EARVSS (power) "Analog negative power supply for the earphone amplifiers", A4 EAR1OP (out) "Earphone 1 amplifier output (+)", A5 EARVDD (power) "Analog positive power supply for the earphone amplifiers", A6 EAR1ON (out) "Earphone 1 amplifier output (-)", A7 EARVSS (power) "Analog negative power supply for the earphone amplifiers", A8 PLLVDD (power) "PLL digital power supply", A9 PLLVSS (power) "PLL negative power supply", B1 MBIAS (out) "Microphone bias supply output, no decoupling capacitors", B9 VSS (power) "Ground return for bandgap internal reference", C1 MIC1P (in) "MIC1 input (+)", C9 MCLK (in) "Master system clock input (2.048 MHz) (digital)", D1 MIC1N (in) "MIC1 input (-)", D9 ~{RESET} (in) "Active low reset", E1 MIC2P (in) "MIC2 input (+)", E9 PWRUPSEL (in) "Selects the power-up default mode", F1 MIC2N (in) "MIC2 input (-)", F9 BUZZCON (out) "Buzzer output, a pulse-density modulated signal to apply to external buzzer driver", G1 REXT "Internal reference current setting terminal (use precision 100-k ohm resistor and no filtering capacitors)", G9 PCMSYN (in) "PCM frame synchronization", H9 PCMCLK (in) "PCM data clock", J1 AVSS (power) "Analog negative power supply", J4 SDA (io) "I2C-bus serial address/data input/output--this is a bidirectional terminal used to transfer register control addresses and data into and out of the CODEC. It is an open-drain terminal and therefore requires a pullup resistor (See Datasheet)", J5 SCL (in) "I2C-bus serial clock. This input is used to synchronize the data transfer from and to the PCM codec.", J6 DVDD (power) "Digital positive power supply", J7 DVSS (power) "Digital negative power supply", J8 PCMI (in) "Receive PCM input", J9 PCMO (hiz) "Transmit PCM output"
part B pins: B2 NC "No internal connection", B3 NC "No internal connection", B4 NC "No internal connection", B5 NC "No internal connection", B6 NC "No internal connection", B7 NC "No internal connection", B8 NC "No internal connection", C2 NC "No internal connection", C4 NC "No internal connection", C5 NC "No internal connection", C6 NC "No internal connection", C7 NC "No internal connection", C8 NC "No internal connection", D2 NC "No internal connection", D3 NC "No internal connection", D4 NC "No internal connection", D5 NC "No internal connection", D6 NC "No internal connection", D7 NC "No internal connection", D8 NC "No internal connection", E2 NC "No internal connection", E3 NC "No internal connection", E4 NC "No internal connection", E5 NC "No internal connection", E6 NC "No internal connection", E7 NC "No internal connection", E8 NC "No internal connection", F2 NC "No internal connection", F3 NC "No internal connection", F4 NC "No internal connection", F5 NC "No internal connection", F6 NC "No internal connection", F7 NC "No internal connection", F8 NC "No internal connection", G2 NC "No internal connection", G3 NC "No internal connection", G4 NC "No internal connection", G5 NC "No internal connection", G6 NC "No internal connection", G7 NC "No internal connection", G8 NC "No internal connection", H1 NC "No internal connection", H2 NC "No internal connection", H3 NC "No internal connection", H4 NC "No internal connection", H5 NC "No internal connection", H6 NC "No internal connection", H7 NC "No internal connection", H8 NC "No internal connection", J2 NC "No internal connection", J3 NC "No internal connection"

## TLV320AIC1106PW
designator U?
PCM CODEC with Microphone Amps & Speaker Driver, 1 ADC and 1 DAC, -40 to 85 degC, 20-pin TSSOP (PW), Green (RoHS & no Sb/Br); Manufacturer: Texas Instruments; PartNumber: TLV320AIC1106PW; # ADCs (typ): 1; Additional Features: u-Law; Battery Powered: TRUE; Control Interface: H/W; Sampling Rate (Max) (kHz): 8; DatasheetVersion: SLAS357; PackageVersion: revG, Feb-2011; PackageReference: PW20; PackageDescription: 20-Pin Plastic Thin Small Outline Package 6.5 x 4.4 mm Body ,0.65 mm Pitch; Supplier 1: Digi-Key; Supplier Part Number 1: 296-15634-5-ND; Supplier 2: Newark; Supplier Part Number 2: 61H5491; Supplier 3: Mouser; Supplier Part Number 3: 595-TLV320AIC1106PW; # DACs: 1; Digital Audio Interfaces: PCM; Mounting Technology: Surface Mount; Code_JEDEC: MO-153; ComponentLink1Description: Datasheet; ComponentLink1URL: http://www.ti.com/general/docs/lit/getliterature.tsp?genericPartNumber=TLV320AIC1106&fileType=pdf
footprint PW20_N (TSOP, 20-Leads, Body 6.5x4.4mm, Pitch 0.65mm, IPC Medium Density)
footprint PW20_L (TSOP, 20-Leads, Body 6.5x4.4mm, Pitch 0.65mm, IPC High Density)
footprint PW20_M (TSOP, 20-Leads, Body 6.5x4.4mm, Pitch 0.65mm, IPC Low Density)
pins: 1 MICMUTE (in) "Microphone mute", 2 ~{RESET} (in) "Active-low reset", 3 VSS (power) "Ground return for band-gap internal reference", 4 EARVSS (power) "Analog ground for EAROUT+", 5 EAROUT+ (out) "Earphone amplifier positive output", 6 EARVDD (power) "Analog positive power supply for the earphone amplifiers", 7 EAROUT- (out) "Earphone amplifier negative output", 8 EARVSS (power) "Analog ground for EAROUT-", 9 MICGAIN+ (out) "Microphone gain positive feedback", 10 MICIN- (in) "Microphone negative input (-)", 11 MICIN+ (in) "Microphone positive input (+)", 12 MICGAIN- (out) "Microphone gain negative feedback", 13 ~{LINSEL} (in) "Companding enable", 14 DVDD (power) "Digital positive power supply", 15 DVSS (power) "Digital negative power supply", 16 PCMI (in) "Receive PCM input", 17 PCMO (hiz) "Transmit PCM output", 18 PCMSYNC (in) "PCM frame synchronization", 19 MCLK (in) "Master system clock input (2.048 MHz) (digital)", 20 EARMUTE (in) "Earphone mute"

## TLV320AIC1106PWG4
designator U?
PCM CODEC with Microphone Amps & Speaker Driver, 1 ADC and 1 DAC, -40 to 85 degC, 20-pin TSSOP (PW), Green (RoHS & no Sb/Br); Manufacturer: Texas Instruments; PartNumber: TLV320AIC1106PWG4; # ADCs (typ): 1; Additional Features: u-Law; Battery Powered: TRUE; Control Interface: H/W; Sampling Rate (Max) (kHz): 8; DatasheetVersion: SLAS357; PackageVersion: revG, Feb-2011; PackageReference: PW20; PackageDescription: 20-Pin Plastic Thin Small Outline Package 6.5 x 4.4 mm Body ,0.65 mm Pitch; Supplier 1: Digi-Key; Supplier Part Number 1: TLV320AIC1106PWG4-ND; Supplier 2: Newark; Supplier Part Number 2: 58K6787; Supplier 3: Mouser; Supplier Part Number 3: 595-TLV320AIC1106PWG; # DACs: 1; Digital Audio Interfaces: PCM; Mounting Technology: Surface Mount; Code_JEDEC: MO-153; ComponentLink1Description: Datasheet; ComponentLink1URL: http://www.ti.com/general/docs/lit/getliterature.tsp?genericPartNumber=TLV320AIC1106&fileType=pdf
footprint PW20_N (TSOP, 20-Leads, Body 6.5x4.4mm, Pitch 0.65mm, IPC Medium Density)
footprint PW20_L (TSOP, 20-Leads, Body 6.5x4.4mm, Pitch 0.65mm, IPC High Density)
footprint PW20_M (TSOP, 20-Leads, Body 6.5x4.4mm, Pitch 0.65mm, IPC Low Density)
pins: 1 MICMUTE (in) "Microphone mute", 2 ~{RESET} (in) "Active-low reset", 3 VSS (power) "Ground return for band-gap internal reference", 4 EARVSS (power) "Analog ground for EAROUT+", 5 EAROUT+ (out) "Earphone amplifier positive output", 6 EARVDD (power) "Analog positive power supply for the earphone amplifiers", 7 EAROUT- (out) "Earphone amplifier negative output", 8 EARVSS (power) "Analog ground for EAROUT-", 9 MICGAIN+ (out) "Microphone gain positive feedback", 10 MICIN- (in) "Microphone negative input (-)", 11 MICIN+ (in) "Microphone positive input (+)", 12 MICGAIN- (out) "Microphone gain negative feedback", 13 ~{LINSEL} (in) "Companding enable", 14 DVDD (power) "Digital positive power supply", 15 DVSS (power) "Digital negative power supply", 16 PCMI (in) "Receive PCM input", 17 PCMO (hiz) "Transmit PCM output", 18 PCMSYNC (in) "PCM frame synchronization", 19 MCLK (in) "Master system clock input (2.048 MHz) (digital)", 20 EARMUTE (in) "Earphone mute"

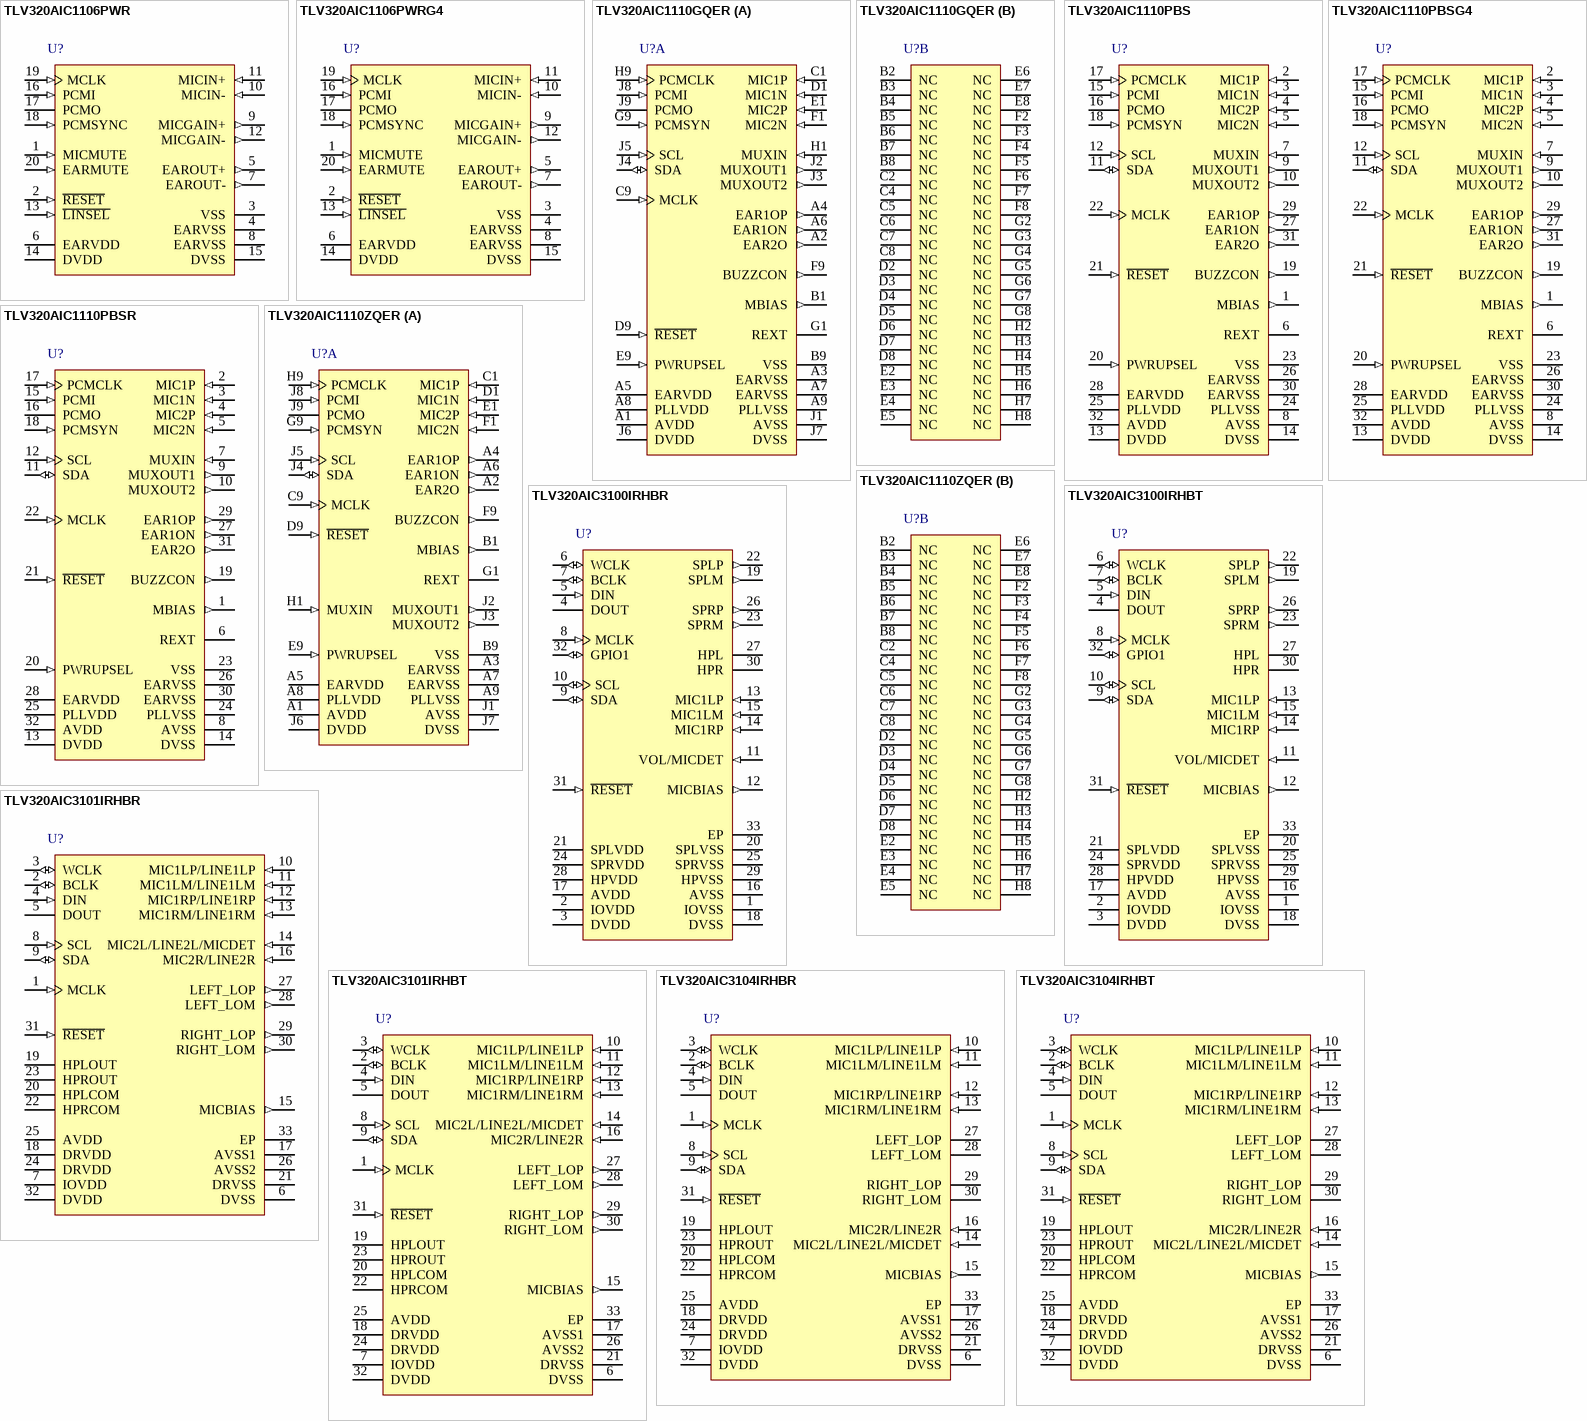
[diagram p11: symbols TLV320AIC1106PWR to TLV320AIC3104IRHBT]

## TLV320AIC1106PWR
designator U?
PCM CODEC with Microphone Amps & Speaker Driver, 1 ADC and 1 DAC, -40 to 85 degC, 20-pin TSSOP (PW), Green (RoHS & no Sb/Br); Manufacturer: Texas Instruments; PartNumber: TLV320AIC1106PWR; # ADCs (typ): 1; Additional Features: u-Law; Battery Powered: TRUE; Control Interface: H/W; Sampling Rate (Max) (kHz): 8; DatasheetVersion: SLAS357; PackageVersion: revG, Feb-2011; PackageReference: PW20; PackageDescription: 20-Pin Plastic Thin Small Outline Package 6.5 x 4.4 mm Body ,0.65 mm Pitch; Supplier 1: Digi-Key; Supplier Part Number 1: TLV320AIC1106PWR-ND; Supplier 2: Newark; Supplier Part Number 2: 76C8701; Supplier 3: Mouser; Supplier Part Number 3: 595-TLV320AIC1106PWR; # DACs: 1; Digital Audio Interfaces: PCM; Mounting Technology: Surface Mount; Code_JEDEC: MO-153; ComponentLink1Description: Datasheet; ComponentLink1URL: http://www.ti.com/general/docs/lit/getliterature.tsp?genericPartNumber=TLV320AIC1106&fileType=pdf
footprint PW20_N (TSOP, 20-Leads, Body 6.5x4.4mm, Pitch 0.65mm, IPC Medium Density)
footprint PW20_L (TSOP, 20-Leads, Body 6.5x4.4mm, Pitch 0.65mm, IPC High Density)
footprint PW20_M (TSOP, 20-Leads, Body 6.5x4.4mm, Pitch 0.65mm, IPC Low Density)
pins: 1 MICMUTE (in) "Microphone mute", 2 ~{RESET} (in) "Active-low reset", 3 VSS (power) "Ground return for band-gap internal reference", 4 EARVSS (power) "Analog ground for EAROUT+", 5 EAROUT+ (out) "Earphone amplifier positive output", 6 EARVDD (power) "Analog positive power supply for the earphone amplifiers", 7 EAROUT- (out) "Earphone amplifier negative output", 8 EARVSS (power) "Analog ground for EAROUT-", 9 MICGAIN+ (out) "Microphone gain positive feedback", 10 MICIN- (in) "Microphone negative input (-)", 11 MICIN+ (in) "Microphone positive input (+)", 12 MICGAIN- (out) "Microphone gain negative feedback", 13 ~{LINSEL} (in) "Companding enable", 14 DVDD (power) "Digital positive power supply", 15 DVSS (power) "Digital negative power supply", 16 PCMI (in) "Receive PCM input", 17 PCMO (hiz) "Transmit PCM output", 18 PCMSYNC (in) "PCM frame synchronization", 19 MCLK (in) "Master system clock input (2.048 MHz) (digital)", 20 EARMUTE (in) "Earphone mute"

## TLV320AIC1106PWRG4
designator U?
PCM CODEC with Microphone Amps & Speaker Driver, 1 ADC and 1 DAC, -40 to 85 degC, 20-pin TSSOP (PW), Green (RoHS & no Sb/Br); Manufacturer: Texas Instruments; PartNumber: TLV320AIC1106PWRG4; # ADCs (typ): 1; Additional Features: u-Law; Battery Powered: TRUE; Control Interface: H/W; Sampling Rate (Max) (kHz): 8; DatasheetVersion: SLAS357; PackageVersion: revG, Feb-2011; PackageReference: PW20; PackageDescription: 20-Pin Plastic Thin Small Outline Package 6.5 x 4.4 mm Body ,0.65 mm Pitch; Supplier 1: Digi-Key; Supplier Part Number 1: TLV320AIC1106PWRG4-ND; Supplier 2: Newark; Supplier Part Number 2: 67K8535; Supplier 3: Mouser; Supplier Part Number 3: 595-TLV320AIC1106PG4; # DACs: 1; Digital Audio Interfaces: PCM; Mounting Technology: Surface Mount; Code_JEDEC: MO-153; ComponentLink1Description: Datasheet; ComponentLink1URL: http://www.ti.com/general/docs/lit/getliterature.tsp?genericPartNumber=TLV320AIC1106&fileType=pdf
footprint PW20_N (TSOP, 20-Leads, Body 6.5x4.4mm, Pitch 0.65mm, IPC Medium Density)
footprint PW20_L (TSOP, 20-Leads, Body 6.5x4.4mm, Pitch 0.65mm, IPC High Density)
footprint PW20_M (TSOP, 20-Leads, Body 6.5x4.4mm, Pitch 0.65mm, IPC Low Density)
pins: 1 MICMUTE (in) "Microphone mute", 2 ~{RESET} (in) "Active-low reset", 3 VSS (power) "Ground return for band-gap internal reference", 4 EARVSS (power) "Analog ground for EAROUT+", 5 EAROUT+ (out) "Earphone amplifier positive output", 6 EARVDD (power) "Analog positive power supply for the earphone amplifiers", 7 EAROUT- (out) "Earphone amplifier negative output", 8 EARVSS (power) "Analog ground for EAROUT-", 9 MICGAIN+ (out) "Microphone gain positive feedback", 10 MICIN- (in) "Microphone negative input (-)", 11 MICIN+ (in) "Microphone positive input (+)", 12 MICGAIN- (out) "Microphone gain negative feedback", 13 ~{LINSEL} (in) "Companding enable", 14 DVDD (power) "Digital positive power supply", 15 DVSS (power) "Digital negative power supply", 16 PCMI (in) "Receive PCM input", 17 PCMO (hiz) "Transmit PCM output", 18 PCMSYNC (in) "PCM frame synchronization", 19 MCLK (in) "Master system clock input (2.048 MHz) (digital)", 20 EARMUTE (in) "Earphone mute"